# Altium footprint library RT8035.PcbLib: 1 footprints
Each footprint in its own frame and in the unit in brackets; x right, y up, seen from the top. Pads: shape width x height; smd on the part's side, far side on the other; paste and mask are expansions set on the pad; w line width, h text height; cw(c..) or ccw(c..) is an arc to the next point about the centre after c.
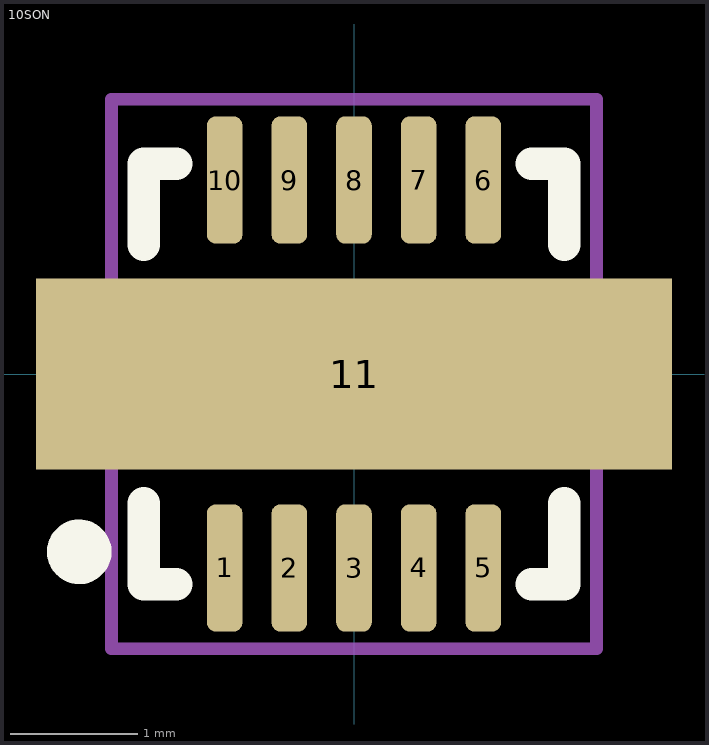
[diagram p0: the footprint, top view; thin cyan lines are the x and y axes]

## 10SON [mm]
height 2
pads (11):
  rrect50% 0.28x1 smd: 1(-1.016,-1.524) 2(-0.508,-1.524) 3(0,-1.524) 4(0.508,-1.524) 5(1.016,-1.524) 6(1.016,1.524) 7(0.508,1.524) 8(0,1.524) 9(-0.508,1.524) 10(-1.016,1.524)
  rect 5x1.5 smd: 11(0,0)
Top Overlay:
  circle w0.254: c-2.159,-1.397 r0.127
  lines w0.254: -1.651,-1.016 -1.651,-1.651 -1.397,-1.651 ; -1.651,1.016 -1.651,1.651 -1.397,1.651 ; 1.397,-1.651 1.651,-1.651 1.651,-1.016 ; 1.397,1.651 1.651,1.651 1.651,1.016
Mechanical 15:
  lines w0.1: -0.5,0 0.5,0 ; 0,-0.5 0,0.5 ; -1.905,-2.159 -1.905,2.159 1.905,2.159 1.905,-2.159 -1.905,-2.159
3D body "User Library-DRC (S-PVSON-N10)-1.STEP": height 1, standoff 0, extent -1.575,-1.575 1.575,1.575